# EAGLE library part LMR38020 (library Public)
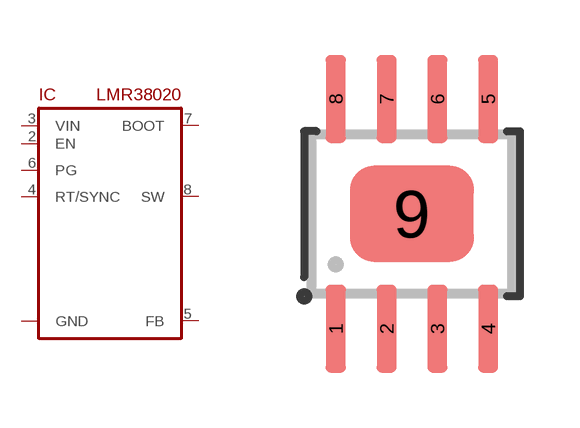
[diagram p125: symbol with the pads of HSOIC-8; footprint HSOIC-8]

Designator prefix IC

## LMR38020  [HSOIC-8]
1  GND
2  EN
3  VIN
4  RT/SYNC
5  FB
6  PG
7  BOOT
8  SW
9  GND

## Footprint HSOIC-8 (pad centres in mm)
smd 0.5 x 2.2: 1 -1.905,-2.875; 2 -0.635,-2.875; 3 0.635,-2.875; 4 1.905,-2.875; 5 1.905,2.875; 6 0.635,2.875; 7 -0.635,2.875; 8 -1.905,2.875
smd 3.1 x 2.4: 9 0,0